# EAGLE library part LM3880 (library airball)
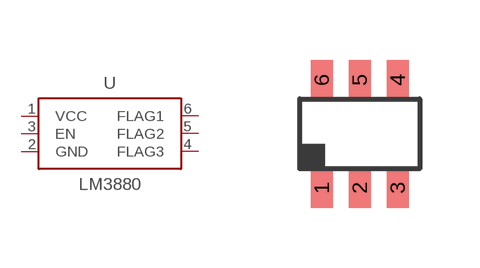
[diagram p12: symbol with the pads of SOT23-6; footprint SOT23-6]

Designator prefix U

## LM3880  [SOT23-6]
1  VCC  pwr
2  GND  pwr
3  EN  in
4  FLAG3  out
5  FLAG2  out
6  FLAG1  out

## Footprint SOT23-6 (pad centres in mm)
smd 0.55 x 1: 1 -0.95,-1.35; 2 0,-1.35; 3 0.95,-1.35; 4 0.95,1.35; 5 0,1.35; 6 -0.95,1.35